# Altium integrated library Cypress PLD Simple.IntLib: 183 symbols (part 2 of 5)
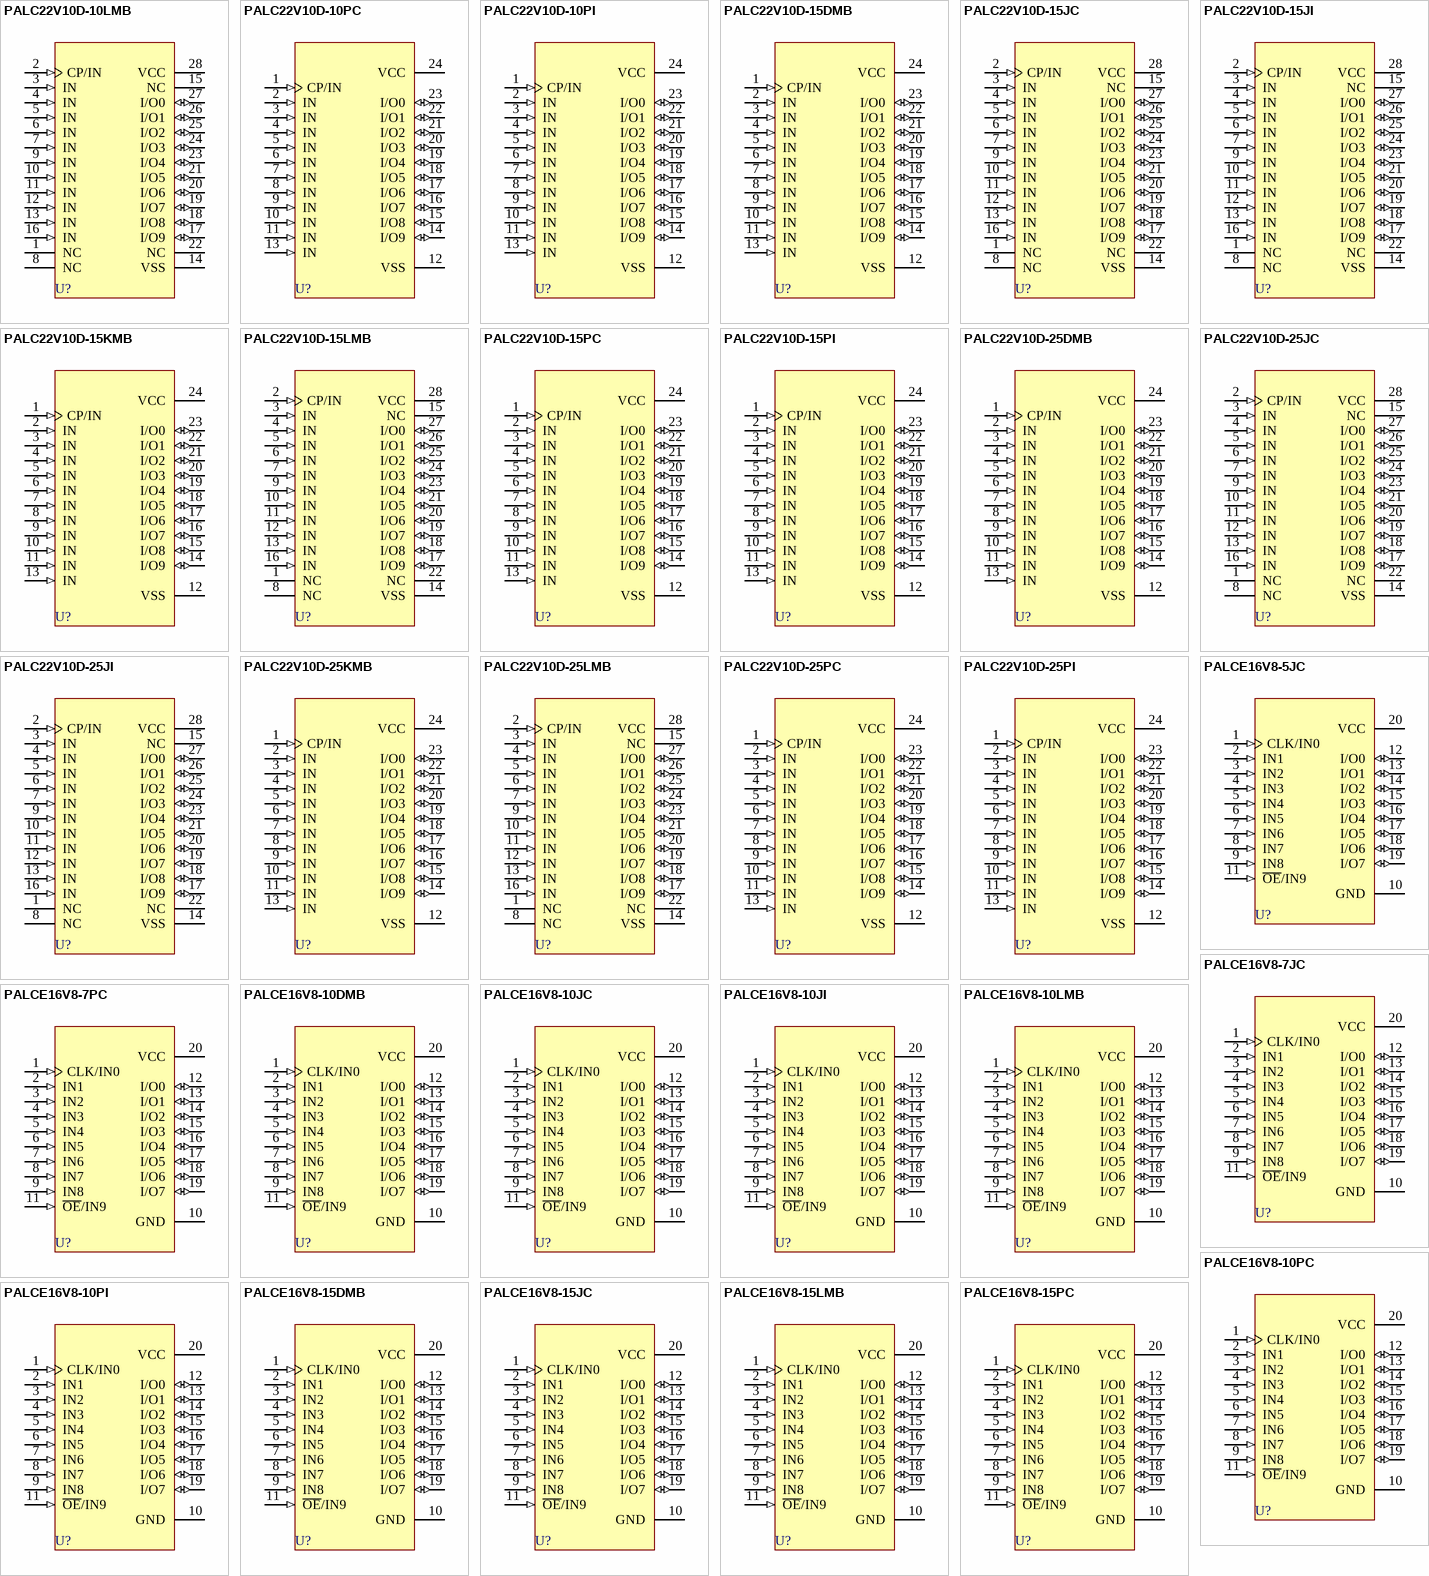
[diagram p8: symbols PALC22V10D-10LMB to PALCE16V8-15PC]

## PALC22V10D-10LMB
designator U?
Flash Erasable, Reprogrammable CMOS PAL Device; Published: 11-Dec-2002; DatasheetVersion: Oct-1995; PackageVersion: Apr-2001; PackageReference: L64; Publisher: Altium Limited; PackageDescription: Leadless Chip Carrier; 28 Terminals; Body 11.4 x 11.4 mm; ComponentLink1Description: Manufacturer Link; ComponentLink1URL: http://www.cypress.com/
footprint L64 (Leadless Chip Carrier; 28 Terminals; Body 11.4 x 11.4 mm)
pins: 1 NC, 2 CP/IN (in), 3 IN (in), 4 IN (in), 5 IN (in), 6 IN (in), 7 IN (in), 8 NC, 9 IN (in), 10 IN (in), 11 IN (in), 12 IN (in), 13 IN (in), 14 VSS (power), 15 NC, 16 IN (in), 17 I/O9 (io), 18 I/O8 (io), 19 I/O7 (io), 20 I/O6 (io), 21 I/O5 (io), 22 NC, 23 I/O4 (io), 24 I/O3 (io), 25 I/O2 (io), 26 I/O1 (io), 27 I/O0 (io), 28 VCC (power)

## PALC22V10D-10PC
designator U?
Flash Erasable, Reprogrammable CMOS PAL Device; Published: 11-Dec-2002; LatestRevisionDate: 06-Oct-2005; LatestRevisionNote: Increased PCB silkscreen length.; DatasheetVersion: Oct-1995; PackageVersion: Mar-2005; PackageReference: P13; Publisher: Altium Limited; PackageDescription: DIP, Molded; 24 Leads; Row Spacing 7.62 mm; Pitch 2.54 mm; ComponentLink1Description: Manufacturer Link; ComponentLink1URL: http://www.cypress.com/
footprint P13 (DIP, Molded; 24 Leads; Row Spacing 7.62 mm; Pitch 2.54 mm)
3D model P13 (DIP, Molded; 24 Leads; Row Spacing 7.62 mm; Pitch 2.54 mm)
pins: 1 CP/IN (in), 2 IN (in), 3 IN (in), 4 IN (in), 5 IN (in), 6 IN (in), 7 IN (in), 8 IN (in), 9 IN (in), 10 IN (in), 11 IN (in), 12 VSS (power), 13 IN (in), 14 I/O9 (io), 15 I/O8 (io), 16 I/O7 (io), 17 I/O6 (io), 18 I/O5 (io), 19 I/O4 (io), 20 I/O3 (io), 21 I/O2 (io), 22 I/O1 (io), 23 I/O0 (io), 24 VCC (power)

## PALC22V10D-10PI
designator U?
Flash Erasable, Reprogrammable CMOS PAL Device; Published: 11-Dec-2002; LatestRevisionDate: 06-Oct-2005; LatestRevisionNote: Increased PCB silkscreen length.; DatasheetVersion: Oct-1995; PackageVersion: Mar-2005; PackageReference: P13; Publisher: Altium Limited; PackageDescription: DIP, Molded; 24 Leads; Row Spacing 7.62 mm; Pitch 2.54 mm; ComponentLink1Description: Manufacturer Link; ComponentLink1URL: http://www.cypress.com/
footprint P13 (DIP, Molded; 24 Leads; Row Spacing 7.62 mm; Pitch 2.54 mm)
3D model P13 (DIP, Molded; 24 Leads; Row Spacing 7.62 mm; Pitch 2.54 mm)
pins: 1 CP/IN (in), 2 IN (in), 3 IN (in), 4 IN (in), 5 IN (in), 6 IN (in), 7 IN (in), 8 IN (in), 9 IN (in), 10 IN (in), 11 IN (in), 12 VSS (power), 13 IN (in), 14 I/O9 (io), 15 I/O8 (io), 16 I/O7 (io), 17 I/O6 (io), 18 I/O5 (io), 19 I/O4 (io), 20 I/O3 (io), 21 I/O2 (io), 22 I/O1 (io), 23 I/O0 (io), 24 VCC (power)

## PALC22V10D-15DMB
designator U?
Flash Erasable, Reprogrammable CMOS PAL Device; Published: 11-Dec-2002; LatestRevisionDate: 04-Mar-2005; LatestRevisionNote: Stylized 3D Model Added.; DatasheetVersion: Oct-1995; PackageVersion: Jul-2001; PackageReference: D14; Publisher: Altium Limited; PackageDescription: CerDIP; 24 Leads; Row Spacing 7.62 mm; Pitch 2.54 mm; Code_JEDEC: MS-001-AF; ComponentLink1Description: Manufacturer Link; ComponentLink1URL: http://www.cypress.com/
footprint D14 (CerDIP; 24 Leads; Row Spacing 7.62 mm; Pitch 2.54 mm)
3D model D14 (CerDIP; 24 Leads; Row Spacing 7.62 mm; Pitch 2.54 mm)
pins: 1 CP/IN (in), 2 IN (in), 3 IN (in), 4 IN (in), 5 IN (in), 6 IN (in), 7 IN (in), 8 IN (in), 9 IN (in), 10 IN (in), 11 IN (in), 12 VSS (power), 13 IN (in), 14 I/O9 (io), 15 I/O8 (io), 16 I/O7 (io), 17 I/O6 (io), 18 I/O5 (io), 19 I/O4 (io), 20 I/O3 (io), 21 I/O2 (io), 22 I/O1 (io), 23 I/O0 (io), 24 VCC (power)

## PALC22V10D-15JC
designator U?
Flash Erasable, Reprogrammable CMOS PAL Device; Published: 11-Dec-2002; LatestRevisionDate: 13-Apr-2006; LatestRevisionNote: IPC-7351 Footprint Added.; DatasheetVersion: Oct-1995; PackageVersion: Jul-2000; PackageReference: J64; Publisher: Altium Limited; PackageDescription: 28-Pin Plastic Leaded Chip Carrier 1.27 mm Pitch; Code_IPC: PLCC-28; ComponentLink1Description: Manufacturer Link; ComponentLink1URL: http://www.cypress.com/
footprint J64_N (Leaded Chip Carrier, 28-Leads, Body 11.5x11.5mm, Pitch 1.27mm, IPC Medium Density)
footprint J64_L (Leaded Chip Carrier, 28-Leads, Body 11.5x11.5mm, Pitch 1.27mm, IPC High Density)
footprint J64_M (Leaded Chip Carrier, 28-Leads, Body 11.5x11.5mm, Pitch 1.27mm, IPC Low Density)
3D model PALC22V10D-J64 (28-Pin Plastic Leaded Chip Carrier 1.27 mm Pitch)
pins: 1 NC, 2 CP/IN (in), 3 IN (in), 4 IN (in), 5 IN (in), 6 IN (in), 7 IN (in), 8 NC, 9 IN (in), 10 IN (in), 11 IN (in), 12 IN (in), 13 IN (in), 14 VSS (power), 15 NC, 16 IN (in), 17 I/O9 (io), 18 I/O8 (io), 19 I/O7 (io), 20 I/O6 (io), 21 I/O5 (io), 22 NC, 23 I/O4 (io), 24 I/O3 (io), 25 I/O2 (io), 26 I/O1 (io), 27 I/O0 (io), 28 VCC (power)

## PALC22V10D-15JI
designator U?
Flash Erasable, Reprogrammable CMOS PAL Device; Published: 11-Dec-2002; LatestRevisionDate: 13-Apr-2006; LatestRevisionNote: IPC-7351 Footprint Added.; DatasheetVersion: Oct-1995; PackageVersion: Jul-2000; PackageReference: J64; Publisher: Altium Limited; PackageDescription: 28-Pin Plastic Leaded Chip Carrier 1.27 mm Pitch; Code_IPC: PLCC-28; ComponentLink1Description: Manufacturer Link; ComponentLink1URL: http://www.cypress.com/
footprint J64_N (Leaded Chip Carrier, 28-Leads, Body 11.5x11.5mm, Pitch 1.27mm, IPC Medium Density)
footprint J64_L (Leaded Chip Carrier, 28-Leads, Body 11.5x11.5mm, Pitch 1.27mm, IPC High Density)
footprint J64_M (Leaded Chip Carrier, 28-Leads, Body 11.5x11.5mm, Pitch 1.27mm, IPC Low Density)
3D model PALC22V10D-J64 (28-Pin Plastic Leaded Chip Carrier 1.27 mm Pitch)
pins: 1 NC, 2 CP/IN (in), 3 IN (in), 4 IN (in), 5 IN (in), 6 IN (in), 7 IN (in), 8 NC, 9 IN (in), 10 IN (in), 11 IN (in), 12 IN (in), 13 IN (in), 14 VSS (power), 15 NC, 16 IN (in), 17 I/O9 (io), 18 I/O8 (io), 19 I/O7 (io), 20 I/O6 (io), 21 I/O5 (io), 22 NC, 23 I/O4 (io), 24 I/O3 (io), 25 I/O2 (io), 26 I/O1 (io), 27 I/O0 (io), 28 VCC (power)

## PALC22V10D-15KMB
designator U?
Flash Erasable, Reprogrammable CMOS PAL Device; Published: 11-Dec-2002; LatestRevisionDate: 04-Mar-2005; LatestRevisionNote: Stylized 3D Model Added.; DatasheetVersion: Oct-1995; PackageVersion: Jul-2001; PackageReference: K73; Publisher: Altium Limited; PackageDescription: DFP; 24 Leads; Body 15.7 x 10.2 mm (LxW max); Pitch 1.27 mm; Code_IPC: MO-019(24); ComponentLink1Description: Manufacturer Link; ComponentLink1URL: http://www.cypress.com/
footprint K73 (DFP; 24 Leads; Body 15.7 x 10.2 mm (LxW max); Pitch 1.27 mm)
3D model K73 (DFP; 24 Leads; Body 15.7 x 10.2 mm (LxW max); Pitch 1.27 mm)
pins: 1 CP/IN (in), 2 IN (in), 3 IN (in), 4 IN (in), 5 IN (in), 6 IN (in), 7 IN (in), 8 IN (in), 9 IN (in), 10 IN (in), 11 IN (in), 12 VSS (power), 13 IN (in), 14 I/O9 (io), 15 I/O8 (io), 16 I/O7 (io), 17 I/O6 (io), 18 I/O5 (io), 19 I/O4 (io), 20 I/O3 (io), 21 I/O2 (io), 22 I/O1 (io), 23 I/O0 (io), 24 VCC (power)

## PALC22V10D-15LMB
designator U?
Flash Erasable, Reprogrammable CMOS PAL Device; Published: 11-Dec-2002; DatasheetVersion: Oct-1995; PackageVersion: Apr-2001; PackageReference: L64; Publisher: Altium Limited; PackageDescription: Leadless Chip Carrier; 28 Terminals; Body 11.4 x 11.4 mm; ComponentLink1Description: Manufacturer Link; ComponentLink1URL: http://www.cypress.com/
footprint L64 (Leadless Chip Carrier; 28 Terminals; Body 11.4 x 11.4 mm)
pins: 1 NC, 2 CP/IN (in), 3 IN (in), 4 IN (in), 5 IN (in), 6 IN (in), 7 IN (in), 8 NC, 9 IN (in), 10 IN (in), 11 IN (in), 12 IN (in), 13 IN (in), 14 VSS (power), 15 NC, 16 IN (in), 17 I/O9 (io), 18 I/O8 (io), 19 I/O7 (io), 20 I/O6 (io), 21 I/O5 (io), 22 NC, 23 I/O4 (io), 24 I/O3 (io), 25 I/O2 (io), 26 I/O1 (io), 27 I/O0 (io), 28 VCC (power)

## PALC22V10D-15PC
designator U?
Flash Erasable, Reprogrammable CMOS PAL Device; Published: 11-Dec-2002; LatestRevisionDate: 06-Oct-2005; LatestRevisionNote: Increased PCB silkscreen length.; DatasheetVersion: Oct-1995; PackageVersion: Mar-2005; PackageReference: P13; Publisher: Altium Limited; PackageDescription: DIP, Molded; 24 Leads; Row Spacing 7.62 mm; Pitch 2.54 mm; ComponentLink1Description: Manufacturer Link; ComponentLink1URL: http://www.cypress.com/
footprint P13 (DIP, Molded; 24 Leads; Row Spacing 7.62 mm; Pitch 2.54 mm)
3D model P13 (DIP, Molded; 24 Leads; Row Spacing 7.62 mm; Pitch 2.54 mm)
pins: 1 CP/IN (in), 2 IN (in), 3 IN (in), 4 IN (in), 5 IN (in), 6 IN (in), 7 IN (in), 8 IN (in), 9 IN (in), 10 IN (in), 11 IN (in), 12 VSS (power), 13 IN (in), 14 I/O9 (io), 15 I/O8 (io), 16 I/O7 (io), 17 I/O6 (io), 18 I/O5 (io), 19 I/O4 (io), 20 I/O3 (io), 21 I/O2 (io), 22 I/O1 (io), 23 I/O0 (io), 24 VCC (power)

## PALC22V10D-15PI
designator U?
Flash Erasable, Reprogrammable CMOS PAL Device; Published: 11-Dec-2002; LatestRevisionDate: 06-Oct-2005; LatestRevisionNote: Increased PCB silkscreen length.; DatasheetVersion: Oct-1995; PackageVersion: Mar-2005; PackageReference: P13; Publisher: Altium Limited; PackageDescription: DIP, Molded; 24 Leads; Row Spacing 7.62 mm; Pitch 2.54 mm; ComponentLink1Description: Manufacturer Link; ComponentLink1URL: http://www.cypress.com/
footprint P13 (DIP, Molded; 24 Leads; Row Spacing 7.62 mm; Pitch 2.54 mm)
3D model P13 (DIP, Molded; 24 Leads; Row Spacing 7.62 mm; Pitch 2.54 mm)
pins: 1 CP/IN (in), 2 IN (in), 3 IN (in), 4 IN (in), 5 IN (in), 6 IN (in), 7 IN (in), 8 IN (in), 9 IN (in), 10 IN (in), 11 IN (in), 12 VSS (power), 13 IN (in), 14 I/O9 (io), 15 I/O8 (io), 16 I/O7 (io), 17 I/O6 (io), 18 I/O5 (io), 19 I/O4 (io), 20 I/O3 (io), 21 I/O2 (io), 22 I/O1 (io), 23 I/O0 (io), 24 VCC (power)

## PALC22V10D-25DMB
designator U?
Flash Erasable, Reprogrammable CMOS PAL Device; Published: 11-Dec-2002; LatestRevisionDate: 04-Mar-2005; LatestRevisionNote: Stylized 3D Model Added.; DatasheetVersion: Oct-1995; PackageVersion: Jul-2001; PackageReference: D14; Publisher: Altium Limited; PackageDescription: CerDIP; 24 Leads; Row Spacing 7.62 mm; Pitch 2.54 mm; Code_JEDEC: MS-001-AF; ComponentLink1Description: Manufacturer Link; ComponentLink1URL: http://www.cypress.com/
footprint D14 (CerDIP; 24 Leads; Row Spacing 7.62 mm; Pitch 2.54 mm)
3D model D14 (CerDIP; 24 Leads; Row Spacing 7.62 mm; Pitch 2.54 mm)
pins: 1 CP/IN (in), 2 IN (in), 3 IN (in), 4 IN (in), 5 IN (in), 6 IN (in), 7 IN (in), 8 IN (in), 9 IN (in), 10 IN (in), 11 IN (in), 12 VSS (power), 13 IN (in), 14 I/O9 (io), 15 I/O8 (io), 16 I/O7 (io), 17 I/O6 (io), 18 I/O5 (io), 19 I/O4 (io), 20 I/O3 (io), 21 I/O2 (io), 22 I/O1 (io), 23 I/O0 (io), 24 VCC (power)

## PALC22V10D-25JC
designator U?
Flash Erasable, Reprogrammable CMOS PAL Device; Published: 11-Dec-2002; LatestRevisionDate: 13-Apr-2006; LatestRevisionNote: IPC-7351 Footprint Added.; DatasheetVersion: Oct-1995; PackageVersion: Jul-2000; PackageReference: J64; Publisher: Altium Limited; PackageDescription: 28-Pin Plastic Leaded Chip Carrier 1.27 mm Pitch; Code_IPC: PLCC-28; ComponentLink1Description: Manufacturer Link; ComponentLink1URL: http://www.cypress.com/
footprint J64_N (Leaded Chip Carrier, 28-Leads, Body 11.5x11.5mm, Pitch 1.27mm, IPC Medium Density)
footprint J64_L (Leaded Chip Carrier, 28-Leads, Body 11.5x11.5mm, Pitch 1.27mm, IPC High Density)
footprint J64_M (Leaded Chip Carrier, 28-Leads, Body 11.5x11.5mm, Pitch 1.27mm, IPC Low Density)
3D model PALC22V10D-J64 (28-Pin Plastic Leaded Chip Carrier 1.27 mm Pitch)
pins: 1 NC, 2 CP/IN (in), 3 IN (in), 4 IN (in), 5 IN (in), 6 IN (in), 7 IN (in), 8 NC, 9 IN (in), 10 IN (in), 11 IN (in), 12 IN (in), 13 IN (in), 14 VSS (power), 15 NC, 16 IN (in), 17 I/O9 (io), 18 I/O8 (io), 19 I/O7 (io), 20 I/O6 (io), 21 I/O5 (io), 22 NC, 23 I/O4 (io), 24 I/O3 (io), 25 I/O2 (io), 26 I/O1 (io), 27 I/O0 (io), 28 VCC (power)

## PALC22V10D-25JI
designator U?
Flash Erasable, Reprogrammable CMOS PAL Device; Published: 11-Dec-2002; LatestRevisionDate: 13-Apr-2006; LatestRevisionNote: IPC-7351 Footprint Added.; DatasheetVersion: Oct-1995; PackageVersion: Jul-2000; PackageReference: J64; Publisher: Altium Limited; PackageDescription: 28-Pin Plastic Leaded Chip Carrier 1.27 mm Pitch; Code_IPC: PLCC-28; ComponentLink1Description: Manufacturer Link; ComponentLink1URL: http://www.cypress.com/
footprint J64_N (Leaded Chip Carrier, 28-Leads, Body 11.5x11.5mm, Pitch 1.27mm, IPC Medium Density)
footprint J64_L (Leaded Chip Carrier, 28-Leads, Body 11.5x11.5mm, Pitch 1.27mm, IPC High Density)
footprint J64_M (Leaded Chip Carrier, 28-Leads, Body 11.5x11.5mm, Pitch 1.27mm, IPC Low Density)
3D model PALC22V10D-J64 (28-Pin Plastic Leaded Chip Carrier 1.27 mm Pitch)
pins: 1 NC, 2 CP/IN (in), 3 IN (in), 4 IN (in), 5 IN (in), 6 IN (in), 7 IN (in), 8 NC, 9 IN (in), 10 IN (in), 11 IN (in), 12 IN (in), 13 IN (in), 14 VSS (power), 15 NC, 16 IN (in), 17 I/O9 (io), 18 I/O8 (io), 19 I/O7 (io), 20 I/O6 (io), 21 I/O5 (io), 22 NC, 23 I/O4 (io), 24 I/O3 (io), 25 I/O2 (io), 26 I/O1 (io), 27 I/O0 (io), 28 VCC (power)

## PALC22V10D-25KMB
designator U?
Flash Erasable, Reprogrammable CMOS PAL Device; Published: 11-Dec-2002; LatestRevisionDate: 04-Mar-2005; LatestRevisionNote: Stylized 3D Model Added.; DatasheetVersion: Oct-1995; PackageVersion: Jul-2001; PackageReference: K73; Publisher: Altium Limited; PackageDescription: DFP; 24 Leads; Body 15.7 x 10.2 mm (LxW max); Pitch 1.27 mm; Code_IPC: MO-019(24); ComponentLink1Description: Manufacturer Link; ComponentLink1URL: http://www.cypress.com/
footprint K73 (DFP; 24 Leads; Body 15.7 x 10.2 mm (LxW max); Pitch 1.27 mm)
3D model K73 (DFP; 24 Leads; Body 15.7 x 10.2 mm (LxW max); Pitch 1.27 mm)
pins: 1 CP/IN (in), 2 IN (in), 3 IN (in), 4 IN (in), 5 IN (in), 6 IN (in), 7 IN (in), 8 IN (in), 9 IN (in), 10 IN (in), 11 IN (in), 12 VSS (power), 13 IN (in), 14 I/O9 (io), 15 I/O8 (io), 16 I/O7 (io), 17 I/O6 (io), 18 I/O5 (io), 19 I/O4 (io), 20 I/O3 (io), 21 I/O2 (io), 22 I/O1 (io), 23 I/O0 (io), 24 VCC (power)

## PALC22V10D-25LMB
designator U?
Flash Erasable, Reprogrammable CMOS PAL Device; Published: 11-Dec-2002; DatasheetVersion: Oct-1995; PackageVersion: Apr-2001; PackageReference: L64; Publisher: Altium Limited; PackageDescription: Leadless Chip Carrier; 28 Terminals; Body 11.4 x 11.4 mm; ComponentLink1Description: Manufacturer Link; ComponentLink1URL: http://www.cypress.com/
footprint L64 (Leadless Chip Carrier; 28 Terminals; Body 11.4 x 11.4 mm)
pins: 1 NC, 2 CP/IN (in), 3 IN (in), 4 IN (in), 5 IN (in), 6 IN (in), 7 IN (in), 8 NC, 9 IN (in), 10 IN (in), 11 IN (in), 12 IN (in), 13 IN (in), 14 VSS (power), 15 NC, 16 IN (in), 17 I/O9 (io), 18 I/O8 (io), 19 I/O7 (io), 20 I/O6 (io), 21 I/O5 (io), 22 NC, 23 I/O4 (io), 24 I/O3 (io), 25 I/O2 (io), 26 I/O1 (io), 27 I/O0 (io), 28 VCC (power)

## PALC22V10D-25PC
designator U?
Flash Erasable, Reprogrammable CMOS PAL Device; Published: 11-Dec-2002; LatestRevisionDate: 06-Oct-2005; LatestRevisionNote: Increased PCB silkscreen length.; DatasheetVersion: Oct-1995; PackageVersion: Mar-2005; PackageReference: P13; Publisher: Altium Limited; PackageDescription: DIP, Molded; 24 Leads; Row Spacing 7.62 mm; Pitch 2.54 mm; ComponentLink1Description: Manufacturer Link; ComponentLink1URL: http://www.cypress.com/
footprint P13 (DIP, Molded; 24 Leads; Row Spacing 7.62 mm; Pitch 2.54 mm)
3D model P13 (DIP, Molded; 24 Leads; Row Spacing 7.62 mm; Pitch 2.54 mm)
pins: 1 CP/IN (in), 2 IN (in), 3 IN (in), 4 IN (in), 5 IN (in), 6 IN (in), 7 IN (in), 8 IN (in), 9 IN (in), 10 IN (in), 11 IN (in), 12 VSS (power), 13 IN (in), 14 I/O9 (io), 15 I/O8 (io), 16 I/O7 (io), 17 I/O6 (io), 18 I/O5 (io), 19 I/O4 (io), 20 I/O3 (io), 21 I/O2 (io), 22 I/O1 (io), 23 I/O0 (io), 24 VCC (power)

## PALC22V10D-25PI
designator U?
Flash Erasable, Reprogrammable CMOS PAL Device; Published: 11-Dec-2002; LatestRevisionDate: 06-Oct-2005; LatestRevisionNote: Increased PCB silkscreen length.; DatasheetVersion: Oct-1995; PackageVersion: Mar-2005; PackageReference: P13; Publisher: Altium Limited; PackageDescription: DIP, Molded; 24 Leads; Row Spacing 7.62 mm; Pitch 2.54 mm; ComponentLink1Description: Manufacturer Link; ComponentLink1URL: http://www.cypress.com/
footprint P13 (DIP, Molded; 24 Leads; Row Spacing 7.62 mm; Pitch 2.54 mm)
3D model P13 (DIP, Molded; 24 Leads; Row Spacing 7.62 mm; Pitch 2.54 mm)
pins: 1 CP/IN (in), 2 IN (in), 3 IN (in), 4 IN (in), 5 IN (in), 6 IN (in), 7 IN (in), 8 IN (in), 9 IN (in), 10 IN (in), 11 IN (in), 12 VSS (power), 13 IN (in), 14 I/O9 (io), 15 I/O8 (io), 16 I/O7 (io), 17 I/O6 (io), 18 I/O5 (io), 19 I/O4 (io), 20 I/O3 (io), 21 I/O2 (io), 22 I/O1 (io), 23 I/O0 (io), 24 VCC (power)

## PALCE16V8-5JC
designator U?
Flash Erasable, Reprogrammable CMOS PAL Device; ComponentAvailability: Not for New Design; Published: 11-Dec-2002; LatestRevisionDate: 13-Apr-2006; LatestRevisionNote: IPC-7351 Footprint Added.; DatasheetVersion: 3-Sep-1998; PackageVersion: Aug-2000; PackageReference: J61; Publisher: Altium Limited; PackageDescription: 20-Pin Plastic Leaded Chip Carrier 1.27 mm Pitch; Code_IPC: PLCC-20; ComponentLink1Description: Manufacturer Link; ComponentLink1URL: http://www.cypress.com/; ComponentLink2Description: Datasheet; ComponentLink2URL: http://www.cypress.com/portal/server.pt/gateway/PTARGS_0_2_1524_209_259_43/http%3B/sjapp20.mis.cypress.com%3B7001/publishedcontent/publish/design_resources/datasheets/contents/palce16v8_5.pdf
footprint J61_N (Leaded Chip Carrier, 20-Leads, Body 9x9mm, Pitch 1.27mm, IPC Medium Density)
footprint J61_L (Leaded Chip Carrier, 20-Leads, Body 9x9mm, Pitch 1.27mm, IPC High Density)
footprint J61_M (Leaded Chip Carrier, 20-Leads, Body 9x9mm, Pitch 1.27mm, IPC Low Density)
3D model PALCE16V8-J61 (20-Pin Plastic Leaded Chip Carrier 1.27 mm Pitch)
pins: 1 CLK/IN0 (in), 2 IN1 (in), 3 IN2 (in), 4 IN3 (in), 5 IN4 (in), 6 IN5 (in), 7 IN6 (in), 8 IN7 (in), 9 IN8 (in), 10 GND (power), 11 ~{OE}/IN9 (in), 12 I/O0 (io), 13 I/O1 (io), 14 I/O2 (io), 15 I/O3 (io), 16 I/O4 (io), 17 I/O5 (io), 18 I/O6 (io), 19 I/O7 (io), 20 VCC (power)

## PALCE16V8-7JC
designator U?
Flash Erasable, Reprogrammable CMOS PAL Device; ComponentAvailability: Not for New Design; Published: 11-Dec-2002; LatestRevisionDate: 13-Apr-2006; LatestRevisionNote: IPC-7351 Footprint Added.; DatasheetVersion: 3-Sep-1998; PackageVersion: Aug-2000; PackageReference: J61; Publisher: Altium Limited; PackageDescription: 20-Pin Plastic Leaded Chip Carrier 1.27 mm Pitch; Code_IPC: PLCC-20; ComponentLink1Description: Manufacturer Link; ComponentLink1URL: http://www.cypress.com/; ComponentLink2Description: Datasheet; ComponentLink2URL: http://www.cypress.com/portal/server.pt/gateway/PTARGS_0_2_1524_209_259_43/http%3B/sjapp20.mis.cypress.com%3B7001/publishedcontent/publish/design_resources/datasheets/contents/palce16v8_5.pdf
footprint J61_N (Leaded Chip Carrier, 20-Leads, Body 9x9mm, Pitch 1.27mm, IPC Medium Density)
footprint J61_L (Leaded Chip Carrier, 20-Leads, Body 9x9mm, Pitch 1.27mm, IPC High Density)
footprint J61_M (Leaded Chip Carrier, 20-Leads, Body 9x9mm, Pitch 1.27mm, IPC Low Density)
3D model PALCE16V8-J61 (20-Pin Plastic Leaded Chip Carrier 1.27 mm Pitch)
pins: 1 CLK/IN0 (in), 2 IN1 (in), 3 IN2 (in), 4 IN3 (in), 5 IN4 (in), 6 IN5 (in), 7 IN6 (in), 8 IN7 (in), 9 IN8 (in), 10 GND (power), 11 ~{OE}/IN9 (in), 12 I/O0 (io), 13 I/O1 (io), 14 I/O2 (io), 15 I/O3 (io), 16 I/O4 (io), 17 I/O5 (io), 18 I/O6 (io), 19 I/O7 (io), 20 VCC (power)

## PALCE16V8-7PC
designator U?
Flash Erasable, Reprogrammable CMOS PAL Device; ComponentAvailability: Not for New Design; Published: 11-Dec-2002; LatestRevisionDate: 04-Mar-2005; LatestRevisionNote: Stylized 3D Model Added.; DatasheetVersion: 3-Sep-1998; PackageVersion: Oct-2004; PackageReference: P5; Publisher: Altium Limited; PackageDescription: DIP, Molded; 20 Leads; Row Spacing 7.62 mm; Pitch 2.54 mm; Code_JEDEC: MS-001-AD; ComponentLink1Description: Manufacturer Link; ComponentLink1URL: http://www.cypress.com/; ComponentLink2Description: Datasheet; ComponentLink2URL: http://www.cypress.com/portal/server.pt/gateway/PTARGS_0_2_1524_209_259_43/http%3B/sjapp20.mis.cypress.com%3B7001/publishedcontent/publish/design_resources/datasheets/contents/palce16v8_5.pdf
footprint P5 (DIP, Molded; 20 Leads; Row Spacing 7.62 mm; Pitch 2.54 mm)
3D model P5 (DIP, Molded; 20 Leads; Row Spacing 7.62 mm; Pitch 2.54 mm)
pins: 1 CLK/IN0 (in), 2 IN1 (in), 3 IN2 (in), 4 IN3 (in), 5 IN4 (in), 6 IN5 (in), 7 IN6 (in), 8 IN7 (in), 9 IN8 (in), 10 GND (power), 11 ~{OE}/IN9 (in), 12 I/O0 (io), 13 I/O1 (io), 14 I/O2 (io), 15 I/O3 (io), 16 I/O4 (io), 17 I/O5 (io), 18 I/O6 (io), 19 I/O7 (io), 20 VCC (power)

## PALCE16V8-10DMB
designator U?
Flash Erasable, Reprogrammable CMOS PAL Device; ComponentAvailability: Not for New Design; Published: 11-Dec-2002; LatestRevisionDate: 04-Mar-2005; LatestRevisionNote: Stylized 3D Model Added.; DatasheetVersion: 3-Sep-1998; PackageVersion: Jul-2001; PackageReference: D6; Publisher: Altium Limited; PackageDescription: CerDIP; 20 Leads; Row Spacing 7.62 mm; Pitch 2.54 mm; ComponentLink1Description: Manufacturer Link; ComponentLink1URL: http://www.cypress.com/; ComponentLink2Description: Datasheet; ComponentLink2URL: http://www.cypress.com/portal/server.pt/gateway/PTARGS_0_2_1524_209_259_43/http%3B/sjapp20.mis.cypress.com%3B7001/publishedcontent/publish/design_resources/datasheets/contents/palce16v8_5.pdf
footprint D6 (CerDIP; 20 Leads; Row Spacing 7.62 mm; Pitch 2.54 mm)
3D model D6 (CerDIP; 20 Leads; Row Spacing 7.62 mm; Pitch 2.54 mm)
pins: 1 CLK/IN0 (in), 2 IN1 (in), 3 IN2 (in), 4 IN3 (in), 5 IN4 (in), 6 IN5 (in), 7 IN6 (in), 8 IN7 (in), 9 IN8 (in), 10 GND (power), 11 ~{OE}/IN9 (in), 12 I/O0 (io), 13 I/O1 (io), 14 I/O2 (io), 15 I/O3 (io), 16 I/O4 (io), 17 I/O5 (io), 18 I/O6 (io), 19 I/O7 (io), 20 VCC (power)

## PALCE16V8-10JC
designator U?
Flash Erasable, Reprogrammable CMOS PAL Device; ComponentAvailability: Not for New Design; Published: 11-Dec-2002; LatestRevisionDate: 13-Apr-2006; LatestRevisionNote: IPC-7351 Footprint Added.; DatasheetVersion: 3-Sep-1998; PackageVersion: Aug-2000; PackageReference: J61; Publisher: Altium Limited; PackageDescription: 20-Pin Plastic Leaded Chip Carrier 1.27 mm Pitch; Code_IPC: PLCC-20; ComponentLink1Description: Manufacturer Link; ComponentLink1URL: http://www.cypress.com/; ComponentLink2Description: Datasheet; ComponentLink2URL: http://www.cypress.com/portal/server.pt/gateway/PTARGS_0_2_1524_209_259_43/http%3B/sjapp20.mis.cypress.com%3B7001/publishedcontent/publish/design_resources/datasheets/contents/palce16v8_5.pdf
footprint J61_N (Leaded Chip Carrier, 20-Leads, Body 9x9mm, Pitch 1.27mm, IPC Medium Density)
footprint J61_L (Leaded Chip Carrier, 20-Leads, Body 9x9mm, Pitch 1.27mm, IPC High Density)
footprint J61_M (Leaded Chip Carrier, 20-Leads, Body 9x9mm, Pitch 1.27mm, IPC Low Density)
3D model PALCE16V8-J61 (20-Pin Plastic Leaded Chip Carrier 1.27 mm Pitch)
pins: 1 CLK/IN0 (in), 2 IN1 (in), 3 IN2 (in), 4 IN3 (in), 5 IN4 (in), 6 IN5 (in), 7 IN6 (in), 8 IN7 (in), 9 IN8 (in), 10 GND (power), 11 ~{OE}/IN9 (in), 12 I/O0 (io), 13 I/O1 (io), 14 I/O2 (io), 15 I/O3 (io), 16 I/O4 (io), 17 I/O5 (io), 18 I/O6 (io), 19 I/O7 (io), 20 VCC (power)

## PALCE16V8-10JI
designator U?
Flash Erasable, Reprogrammable CMOS PAL Device; ComponentAvailability: Not for New Design; Published: 11-Dec-2002; LatestRevisionDate: 13-Apr-2006; LatestRevisionNote: IPC-7351 Footprint Added.; DatasheetVersion: 3-Sep-1998; PackageVersion: Aug-2000; PackageReference: J61; Publisher: Altium Limited; PackageDescription: 20-Pin Plastic Leaded Chip Carrier 1.27 mm Pitch; Code_IPC: PLCC-20; ComponentLink1Description: Manufacturer Link; ComponentLink1URL: http://www.cypress.com/; ComponentLink2Description: Datasheet; ComponentLink2URL: http://www.cypress.com/portal/server.pt/gateway/PTARGS_0_2_1524_209_259_43/http%3B/sjapp20.mis.cypress.com%3B7001/publishedcontent/publish/design_resources/datasheets/contents/palce16v8_5.pdf
footprint J61_N (Leaded Chip Carrier, 20-Leads, Body 9x9mm, Pitch 1.27mm, IPC Medium Density)
footprint J61_L (Leaded Chip Carrier, 20-Leads, Body 9x9mm, Pitch 1.27mm, IPC High Density)
footprint J61_M (Leaded Chip Carrier, 20-Leads, Body 9x9mm, Pitch 1.27mm, IPC Low Density)
3D model PALCE16V8-J61 (20-Pin Plastic Leaded Chip Carrier 1.27 mm Pitch)
pins: 1 CLK/IN0 (in), 2 IN1 (in), 3 IN2 (in), 4 IN3 (in), 5 IN4 (in), 6 IN5 (in), 7 IN6 (in), 8 IN7 (in), 9 IN8 (in), 10 GND (power), 11 ~{OE}/IN9 (in), 12 I/O0 (io), 13 I/O1 (io), 14 I/O2 (io), 15 I/O3 (io), 16 I/O4 (io), 17 I/O5 (io), 18 I/O6 (io), 19 I/O7 (io), 20 VCC (power)

## PALCE16V8-10LMB
designator U?
Flash Erasable, Reprogrammable CMOS PAL Device; ComponentAvailability: Not for New Design; Published: 11-Dec-2002; DatasheetVersion: 3-Sep-1998; PackageVersion: Jul-2001; PackageReference: L61; Publisher: Altium Limited; PackageDescription: Leadless Chip Carrier; 20 Terminals; Body 8.9 x 8.9 mm; ComponentLink1Description: Manufacturer Link; ComponentLink1URL: http://www.cypress.com/; ComponentLink2Description: Datasheet; ComponentLink2URL: http://www.cypress.com/portal/server.pt/gateway/PTARGS_0_2_1524_209_259_43/http%3B/sjapp20.mis.cypress.com%3B7001/publishedcontent/publish/design_resources/datasheets/contents/palce16v8_5.pdf
footprint L61 (Leadless Chip Carrier; 20 Terminals; Body 8.9 x 8.9 mm)
pins: 1 CLK/IN0 (in), 2 IN1 (in), 3 IN2 (in), 4 IN3 (in), 5 IN4 (in), 6 IN5 (in), 7 IN6 (in), 8 IN7 (in), 9 IN8 (in), 10 GND (power), 11 ~{OE}/IN9 (in), 12 I/O0 (io), 13 I/O1 (io), 14 I/O2 (io), 15 I/O3 (io), 16 I/O4 (io), 17 I/O5 (io), 18 I/O6 (io), 19 I/O7 (io), 20 VCC (power)

## PALCE16V8-10PC
designator U?
Flash Erasable, Reprogrammable CMOS PAL Device; ComponentAvailability: Not for New Design; Published: 11-Dec-2002; LatestRevisionDate: 04-Mar-2005; LatestRevisionNote: Stylized 3D Model Added.; DatasheetVersion: 3-Sep-1998; PackageVersion: Oct-2004; PackageReference: P5; Publisher: Altium Limited; PackageDescription: DIP, Molded; 20 Leads; Row Spacing 7.62 mm; Pitch 2.54 mm; Code_JEDEC: MS-001-AD; ComponentLink1Description: Manufacturer Link; ComponentLink1URL: http://www.cypress.com/; ComponentLink2Description: Datasheet; ComponentLink2URL: http://www.cypress.com/portal/server.pt/gateway/PTARGS_0_2_1524_209_259_43/http%3B/sjapp20.mis.cypress.com%3B7001/publishedcontent/publish/design_resources/datasheets/contents/palce16v8_5.pdf
footprint P5 (DIP, Molded; 20 Leads; Row Spacing 7.62 mm; Pitch 2.54 mm)
3D model P5 (DIP, Molded; 20 Leads; Row Spacing 7.62 mm; Pitch 2.54 mm)
pins: 1 CLK/IN0 (in), 2 IN1 (in), 3 IN2 (in), 4 IN3 (in), 5 IN4 (in), 6 IN5 (in), 7 IN6 (in), 8 IN7 (in), 9 IN8 (in), 10 GND (power), 11 ~{OE}/IN9 (in), 12 I/O0 (io), 13 I/O1 (io), 14 I/O2 (io), 15 I/O3 (io), 16 I/O4 (io), 17 I/O5 (io), 18 I/O6 (io), 19 I/O7 (io), 20 VCC (power)

## PALCE16V8-10PI
designator U?
Flash Erasable, Reprogrammable CMOS PAL Device; ComponentAvailability: Not for New Design; Published: 11-Dec-2002; LatestRevisionDate: 04-Mar-2005; LatestRevisionNote: Stylized 3D Model Added.; DatasheetVersion: 3-Sep-1998; PackageVersion: Oct-2004; PackageReference: P5; Publisher: Altium Limited; PackageDescription: DIP, Molded; 20 Leads; Row Spacing 7.62 mm; Pitch 2.54 mm; Code_JEDEC: MS-001-AD; ComponentLink1Description: Manufacturer Link; ComponentLink1URL: http://www.cypress.com/; ComponentLink2Description: Datasheet; ComponentLink2URL: http://www.cypress.com/portal/server.pt/gateway/PTARGS_0_2_1524_209_259_43/http%3B/sjapp20.mis.cypress.com%3B7001/publishedcontent/publish/design_resources/datasheets/contents/palce16v8_5.pdf
footprint P5 (DIP, Molded; 20 Leads; Row Spacing 7.62 mm; Pitch 2.54 mm)
3D model P5 (DIP, Molded; 20 Leads; Row Spacing 7.62 mm; Pitch 2.54 mm)
pins: 1 CLK/IN0 (in), 2 IN1 (in), 3 IN2 (in), 4 IN3 (in), 5 IN4 (in), 6 IN5 (in), 7 IN6 (in), 8 IN7 (in), 9 IN8 (in), 10 GND (power), 11 ~{OE}/IN9 (in), 12 I/O0 (io), 13 I/O1 (io), 14 I/O2 (io), 15 I/O3 (io), 16 I/O4 (io), 17 I/O5 (io), 18 I/O6 (io), 19 I/O7 (io), 20 VCC (power)

## PALCE16V8-15DMB
designator U?
Flash Erasable, Reprogrammable CMOS PAL Device; ComponentAvailability: Not for New Design; Published: 11-Dec-2002; LatestRevisionDate: 04-Mar-2005; LatestRevisionNote: Stylized 3D Model Added.; DatasheetVersion: 3-Sep-1998; PackageVersion: Jul-2001; PackageReference: D6; Publisher: Altium Limited; PackageDescription: CerDIP; 20 Leads; Row Spacing 7.62 mm; Pitch 2.54 mm; ComponentLink1Description: Manufacturer Link; ComponentLink1URL: http://www.cypress.com/; ComponentLink2Description: Datasheet; ComponentLink2URL: http://www.cypress.com/portal/server.pt/gateway/PTARGS_0_2_1524_209_259_43/http%3B/sjapp20.mis.cypress.com%3B7001/publishedcontent/publish/design_resources/datasheets/contents/palce16v8_5.pdf
footprint D6 (CerDIP; 20 Leads; Row Spacing 7.62 mm; Pitch 2.54 mm)
3D model D6 (CerDIP; 20 Leads; Row Spacing 7.62 mm; Pitch 2.54 mm)
pins: 1 CLK/IN0 (in), 2 IN1 (in), 3 IN2 (in), 4 IN3 (in), 5 IN4 (in), 6 IN5 (in), 7 IN6 (in), 8 IN7 (in), 9 IN8 (in), 10 GND (power), 11 ~{OE}/IN9 (in), 12 I/O0 (io), 13 I/O1 (io), 14 I/O2 (io), 15 I/O3 (io), 16 I/O4 (io), 17 I/O5 (io), 18 I/O6 (io), 19 I/O7 (io), 20 VCC (power)

## PALCE16V8-15JC
designator U?
Flash Erasable, Reprogrammable CMOS PAL Device; ComponentAvailability: Not for New Design; Published: 11-Dec-2002; LatestRevisionDate: 13-Apr-2006; LatestRevisionNote: IPC-7351 Footprint Added.; DatasheetVersion: 3-Sep-1998; PackageVersion: Aug-2000; PackageReference: J61; Publisher: Altium Limited; PackageDescription: 20-Pin Plastic Leaded Chip Carrier 1.27 mm Pitch; Code_IPC: PLCC-20; ComponentLink1Description: Manufacturer Link; ComponentLink1URL: http://www.cypress.com/; ComponentLink2Description: Datasheet; ComponentLink2URL: http://www.cypress.com/portal/server.pt/gateway/PTARGS_0_2_1524_209_259_43/http%3B/sjapp20.mis.cypress.com%3B7001/publishedcontent/publish/design_resources/datasheets/contents/palce16v8_5.pdf
footprint J61_N (Leaded Chip Carrier, 20-Leads, Body 9x9mm, Pitch 1.27mm, IPC Medium Density)
footprint J61_L (Leaded Chip Carrier, 20-Leads, Body 9x9mm, Pitch 1.27mm, IPC High Density)
footprint J61_M (Leaded Chip Carrier, 20-Leads, Body 9x9mm, Pitch 1.27mm, IPC Low Density)
3D model PALCE16V8-J61 (20-Pin Plastic Leaded Chip Carrier 1.27 mm Pitch)
pins: 1 CLK/IN0 (in), 2 IN1 (in), 3 IN2 (in), 4 IN3 (in), 5 IN4 (in), 6 IN5 (in), 7 IN6 (in), 8 IN7 (in), 9 IN8 (in), 10 GND (power), 11 ~{OE}/IN9 (in), 12 I/O0 (io), 13 I/O1 (io), 14 I/O2 (io), 15 I/O3 (io), 16 I/O4 (io), 17 I/O5 (io), 18 I/O6 (io), 19 I/O7 (io), 20 VCC (power)

## PALCE16V8-15LMB
designator U?
Flash Erasable, Reprogrammable CMOS PAL Device; ComponentAvailability: Not for New Design; Published: 11-Dec-2002; DatasheetVersion: 3-Sep-1998; PackageVersion: Jul-2001; PackageReference: L61; Publisher: Altium Limited; PackageDescription: Leadless Chip Carrier; 20 Terminals; Body 8.9 x 8.9 mm; ComponentLink1Description: Manufacturer Link; ComponentLink1URL: http://www.cypress.com/; ComponentLink2Description: Datasheet; ComponentLink2URL: http://www.cypress.com/portal/server.pt/gateway/PTARGS_0_2_1524_209_259_43/http%3B/sjapp20.mis.cypress.com%3B7001/publishedcontent/publish/design_resources/datasheets/contents/palce16v8_5.pdf
footprint L61 (Leadless Chip Carrier; 20 Terminals; Body 8.9 x 8.9 mm)
pins: 1 CLK/IN0 (in), 2 IN1 (in), 3 IN2 (in), 4 IN3 (in), 5 IN4 (in), 6 IN5 (in), 7 IN6 (in), 8 IN7 (in), 9 IN8 (in), 10 GND (power), 11 ~{OE}/IN9 (in), 12 I/O0 (io), 13 I/O1 (io), 14 I/O2 (io), 15 I/O3 (io), 16 I/O4 (io), 17 I/O5 (io), 18 I/O6 (io), 19 I/O7 (io), 20 VCC (power)

## PALCE16V8-15PC
designator U?
Flash Erasable, Reprogrammable CMOS PAL Device; ComponentAvailability: Not for New Design; Published: 11-Dec-2002; LatestRevisionDate: 04-Mar-2005; LatestRevisionNote: Stylized 3D Model Added.; DatasheetVersion: 3-Sep-1998; PackageVersion: Oct-2004; PackageReference: P5; Publisher: Altium Limited; PackageDescription: DIP, Molded; 20 Leads; Row Spacing 7.62 mm; Pitch 2.54 mm; Code_JEDEC: MS-001-AD; ComponentLink1Description: Manufacturer Link; ComponentLink1URL: http://www.cypress.com/; ComponentLink2Description: Datasheet; ComponentLink2URL: http://www.cypress.com/portal/server.pt/gateway/PTARGS_0_2_1524_209_259_43/http%3B/sjapp20.mis.cypress.com%3B7001/publishedcontent/publish/design_resources/datasheets/contents/palce16v8_5.pdf
footprint P5 (DIP, Molded; 20 Leads; Row Spacing 7.62 mm; Pitch 2.54 mm)
3D model P5 (DIP, Molded; 20 Leads; Row Spacing 7.62 mm; Pitch 2.54 mm)
pins: 1 CLK/IN0 (in), 2 IN1 (in), 3 IN2 (in), 4 IN3 (in), 5 IN4 (in), 6 IN5 (in), 7 IN6 (in), 8 IN7 (in), 9 IN8 (in), 10 GND (power), 11 ~{OE}/IN9 (in), 12 I/O0 (io), 13 I/O1 (io), 14 I/O2 (io), 15 I/O3 (io), 16 I/O4 (io), 17 I/O5 (io), 18 I/O6 (io), 19 I/O7 (io), 20 VCC (power)

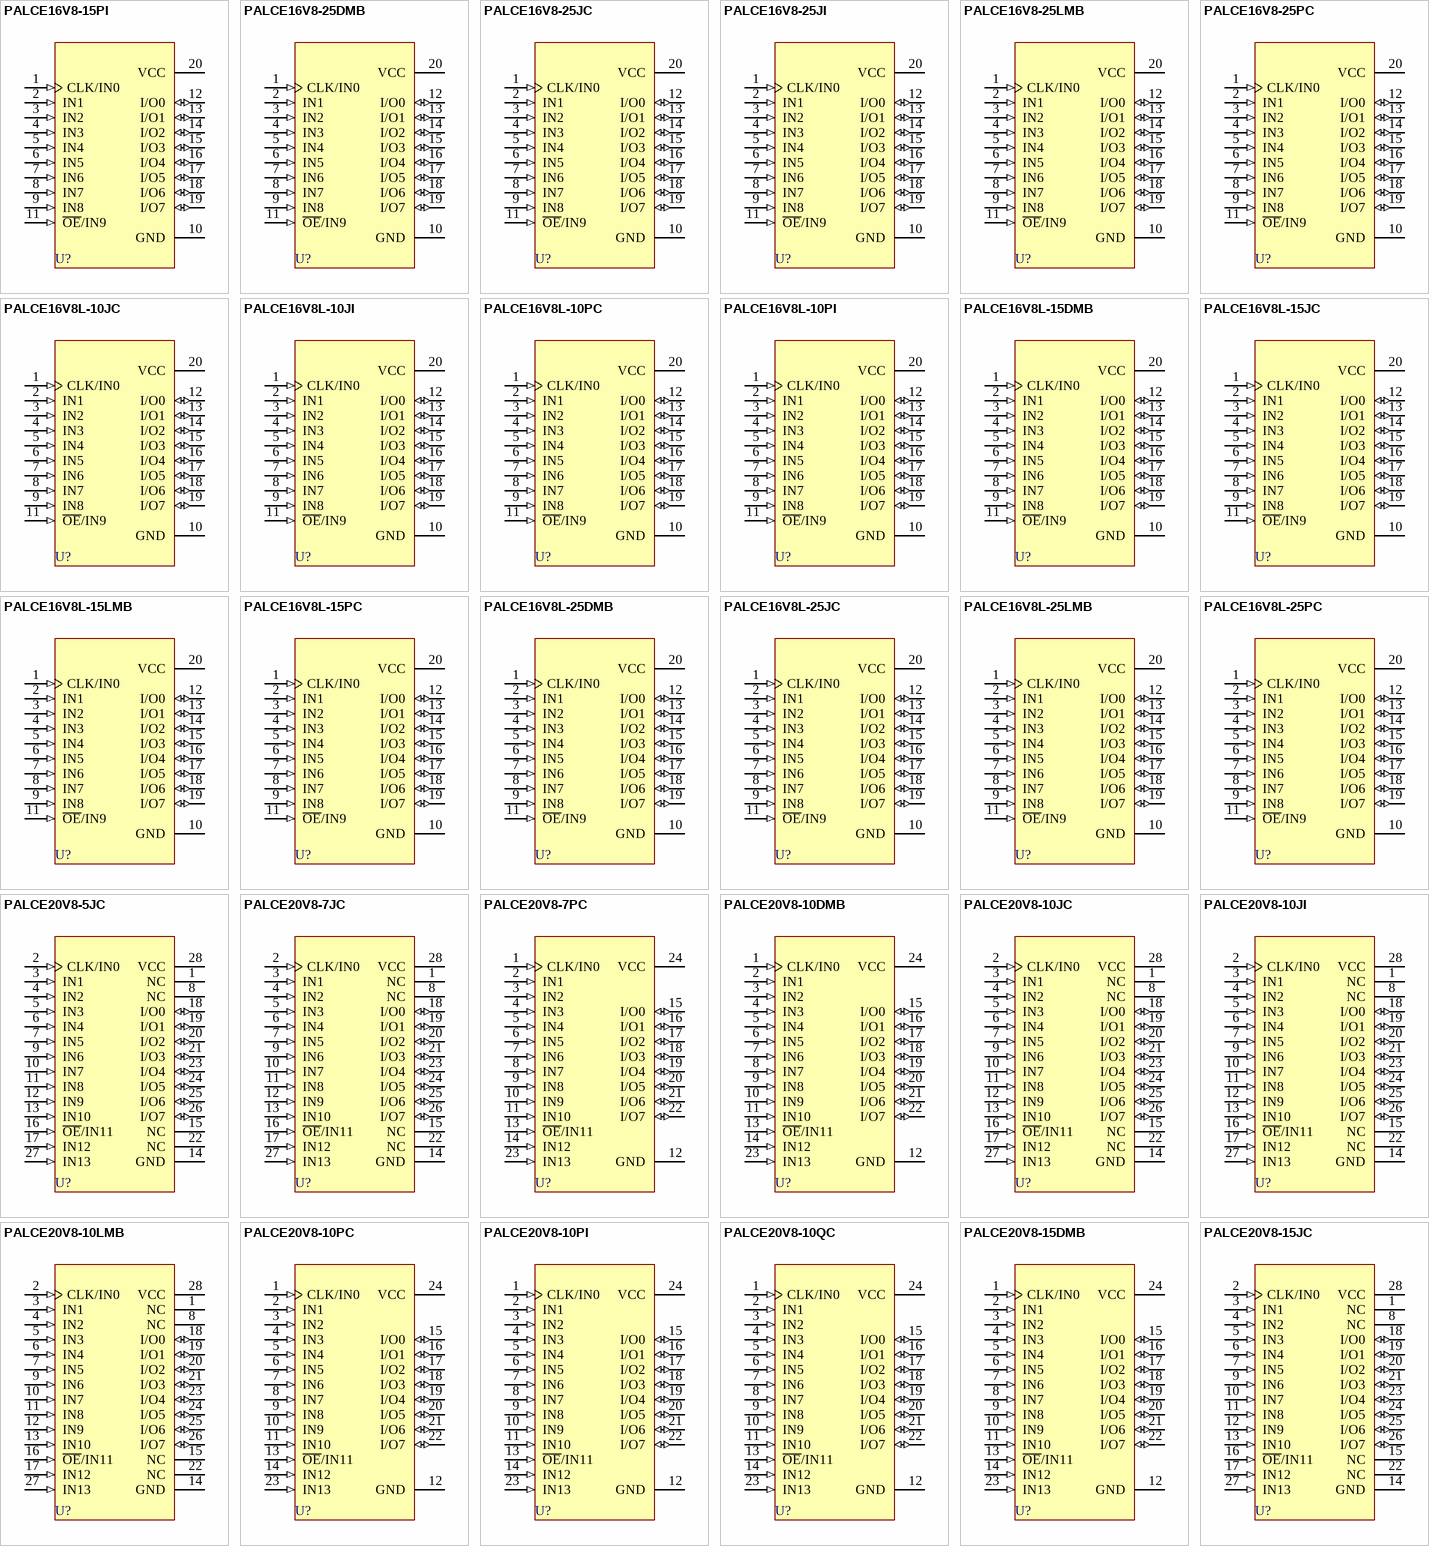
[diagram p3: symbols PALCE16V8-15PI to PALCE20V8-15JC]

## PALCE16V8-15PI
designator U?
Flash Erasable, Reprogrammable CMOS PAL Device; ComponentAvailability: Not for New Design; Published: 11-Dec-2002; LatestRevisionDate: 04-Mar-2005; LatestRevisionNote: Stylized 3D Model Added.; DatasheetVersion: 3-Sep-1998; PackageVersion: Oct-2004; PackageReference: P5; Publisher: Altium Limited; PackageDescription: DIP, Molded; 20 Leads; Row Spacing 7.62 mm; Pitch 2.54 mm; Code_JEDEC: MS-001-AD; ComponentLink1Description: Manufacturer Link; ComponentLink1URL: http://www.cypress.com/; ComponentLink2Description: Datasheet; ComponentLink2URL: http://www.cypress.com/portal/server.pt/gateway/PTARGS_0_2_1524_209_259_43/http%3B/sjapp20.mis.cypress.com%3B7001/publishedcontent/publish/design_resources/datasheets/contents/palce16v8_5.pdf
footprint P5 (DIP, Molded; 20 Leads; Row Spacing 7.62 mm; Pitch 2.54 mm)
3D model P5 (DIP, Molded; 20 Leads; Row Spacing 7.62 mm; Pitch 2.54 mm)
pins: 1 CLK/IN0 (in), 2 IN1 (in), 3 IN2 (in), 4 IN3 (in), 5 IN4 (in), 6 IN5 (in), 7 IN6 (in), 8 IN7 (in), 9 IN8 (in), 10 GND (power), 11 ~{OE}/IN9 (in), 12 I/O0 (io), 13 I/O1 (io), 14 I/O2 (io), 15 I/O3 (io), 16 I/O4 (io), 17 I/O5 (io), 18 I/O6 (io), 19 I/O7 (io), 20 VCC (power)

## PALCE16V8-25DMB
designator U?
Flash Erasable, Reprogrammable CMOS PAL Device; ComponentAvailability: Not for New Design; Published: 11-Dec-2002; LatestRevisionDate: 04-Mar-2005; LatestRevisionNote: Stylized 3D Model Added.; DatasheetVersion: 3-Sep-1998; PackageVersion: Jul-2001; PackageReference: D6; Publisher: Altium Limited; PackageDescription: CerDIP; 20 Leads; Row Spacing 7.62 mm; Pitch 2.54 mm; ComponentLink1Description: Manufacturer Link; ComponentLink1URL: http://www.cypress.com/; ComponentLink2Description: Datasheet; ComponentLink2URL: http://www.cypress.com/portal/server.pt/gateway/PTARGS_0_2_1524_209_259_43/http%3B/sjapp20.mis.cypress.com%3B7001/publishedcontent/publish/design_resources/datasheets/contents/palce16v8_5.pdf
footprint D6 (CerDIP; 20 Leads; Row Spacing 7.62 mm; Pitch 2.54 mm)
3D model D6 (CerDIP; 20 Leads; Row Spacing 7.62 mm; Pitch 2.54 mm)
pins: 1 CLK/IN0 (in), 2 IN1 (in), 3 IN2 (in), 4 IN3 (in), 5 IN4 (in), 6 IN5 (in), 7 IN6 (in), 8 IN7 (in), 9 IN8 (in), 10 GND (power), 11 ~{OE}/IN9 (in), 12 I/O0 (io), 13 I/O1 (io), 14 I/O2 (io), 15 I/O3 (io), 16 I/O4 (io), 17 I/O5 (io), 18 I/O6 (io), 19 I/O7 (io), 20 VCC (power)

## PALCE16V8-25JC
designator U?
Flash Erasable, Reprogrammable CMOS PAL Device; ComponentAvailability: Not for New Design; Published: 11-Dec-2002; LatestRevisionDate: 13-Apr-2006; LatestRevisionNote: IPC-7351 Footprint Added.; DatasheetVersion: 3-Sep-1998; PackageVersion: Aug-2000; PackageReference: J61; Publisher: Altium Limited; PackageDescription: 20-Pin Plastic Leaded Chip Carrier 1.27 mm Pitch; Code_IPC: PLCC-20; ComponentLink1Description: Manufacturer Link; ComponentLink1URL: http://www.cypress.com/; ComponentLink2Description: Datasheet; ComponentLink2URL: http://www.cypress.com/portal/server.pt/gateway/PTARGS_0_2_1524_209_259_43/http%3B/sjapp20.mis.cypress.com%3B7001/publishedcontent/publish/design_resources/datasheets/contents/palce16v8_5.pdf
footprint J61_N (Leaded Chip Carrier, 20-Leads, Body 9x9mm, Pitch 1.27mm, IPC Medium Density)
footprint J61_L (Leaded Chip Carrier, 20-Leads, Body 9x9mm, Pitch 1.27mm, IPC High Density)
footprint J61_M (Leaded Chip Carrier, 20-Leads, Body 9x9mm, Pitch 1.27mm, IPC Low Density)
3D model PALCE16V8-J61 (20-Pin Plastic Leaded Chip Carrier 1.27 mm Pitch)
pins: 1 CLK/IN0 (in), 2 IN1 (in), 3 IN2 (in), 4 IN3 (in), 5 IN4 (in), 6 IN5 (in), 7 IN6 (in), 8 IN7 (in), 9 IN8 (in), 10 GND (power), 11 ~{OE}/IN9 (in), 12 I/O0 (io), 13 I/O1 (io), 14 I/O2 (io), 15 I/O3 (io), 16 I/O4 (io), 17 I/O5 (io), 18 I/O6 (io), 19 I/O7 (io), 20 VCC (power)

## PALCE16V8-25JI
designator U?
Flash Erasable, Reprogrammable CMOS PAL Device; ComponentAvailability: Not for New Design; Published: 11-Dec-2002; LatestRevisionDate: 13-Apr-2006; LatestRevisionNote: IPC-7351 Footprint Added.; DatasheetVersion: 3-Sep-1998; PackageVersion: Aug-2000; PackageReference: J61; Publisher: Altium Limited; PackageDescription: 20-Pin Plastic Leaded Chip Carrier 1.27 mm Pitch; Code_IPC: PLCC-20; ComponentLink1Description: Manufacturer Link; ComponentLink1URL: http://www.cypress.com/; ComponentLink2Description: Datasheet; ComponentLink2URL: http://www.cypress.com/portal/server.pt/gateway/PTARGS_0_2_1524_209_259_43/http%3B/sjapp20.mis.cypress.com%3B7001/publishedcontent/publish/design_resources/datasheets/contents/palce16v8_5.pdf
footprint J61_N (Leaded Chip Carrier, 20-Leads, Body 9x9mm, Pitch 1.27mm, IPC Medium Density)
footprint J61_L (Leaded Chip Carrier, 20-Leads, Body 9x9mm, Pitch 1.27mm, IPC High Density)
footprint J61_M (Leaded Chip Carrier, 20-Leads, Body 9x9mm, Pitch 1.27mm, IPC Low Density)
3D model PALCE16V8-J61 (20-Pin Plastic Leaded Chip Carrier 1.27 mm Pitch)
pins: 1 CLK/IN0 (in), 2 IN1 (in), 3 IN2 (in), 4 IN3 (in), 5 IN4 (in), 6 IN5 (in), 7 IN6 (in), 8 IN7 (in), 9 IN8 (in), 10 GND (power), 11 ~{OE}/IN9 (in), 12 I/O0 (io), 13 I/O1 (io), 14 I/O2 (io), 15 I/O3 (io), 16 I/O4 (io), 17 I/O5 (io), 18 I/O6 (io), 19 I/O7 (io), 20 VCC (power)

## PALCE16V8-25LMB
designator U?
Flash Erasable, Reprogrammable CMOS PAL Device; ComponentAvailability: Not for New Design; Published: 11-Dec-2002; DatasheetVersion: 3-Sep-1998; PackageVersion: Jul-2001; PackageReference: L61; Publisher: Altium Limited; PackageDescription: Leadless Chip Carrier; 20 Terminals; Body 8.9 x 8.9 mm; ComponentLink1Description: Manufacturer Link; ComponentLink1URL: http://www.cypress.com/; ComponentLink2Description: Datasheet; ComponentLink2URL: http://www.cypress.com/portal/server.pt/gateway/PTARGS_0_2_1524_209_259_43/http%3B/sjapp20.mis.cypress.com%3B7001/publishedcontent/publish/design_resources/datasheets/contents/palce16v8_5.pdf
footprint L61 (Leadless Chip Carrier; 20 Terminals; Body 8.9 x 8.9 mm)
pins: 1 CLK/IN0 (in), 2 IN1 (in), 3 IN2 (in), 4 IN3 (in), 5 IN4 (in), 6 IN5 (in), 7 IN6 (in), 8 IN7 (in), 9 IN8 (in), 10 GND (power), 11 ~{OE}/IN9 (in), 12 I/O0 (io), 13 I/O1 (io), 14 I/O2 (io), 15 I/O3 (io), 16 I/O4 (io), 17 I/O5 (io), 18 I/O6 (io), 19 I/O7 (io), 20 VCC (power)

## PALCE16V8-25PC
designator U?
Flash Erasable, Reprogrammable CMOS PAL Device; ComponentAvailability: Not for New Design; Published: 11-Dec-2002; LatestRevisionDate: 04-Mar-2005; LatestRevisionNote: Stylized 3D Model Added.; DatasheetVersion: 3-Sep-1998; PackageVersion: Oct-2004; PackageReference: P5; Publisher: Altium Limited; PackageDescription: DIP, Molded; 20 Leads; Row Spacing 7.62 mm; Pitch 2.54 mm; Code_JEDEC: MS-001-AD; ComponentLink1Description: Manufacturer Link; ComponentLink1URL: http://www.cypress.com/; ComponentLink2Description: Datasheet; ComponentLink2URL: http://www.cypress.com/portal/server.pt/gateway/PTARGS_0_2_1524_209_259_43/http%3B/sjapp20.mis.cypress.com%3B7001/publishedcontent/publish/design_resources/datasheets/contents/palce16v8_5.pdf
footprint P5 (DIP, Molded; 20 Leads; Row Spacing 7.62 mm; Pitch 2.54 mm)
3D model P5 (DIP, Molded; 20 Leads; Row Spacing 7.62 mm; Pitch 2.54 mm)
pins: 1 CLK/IN0 (in), 2 IN1 (in), 3 IN2 (in), 4 IN3 (in), 5 IN4 (in), 6 IN5 (in), 7 IN6 (in), 8 IN7 (in), 9 IN8 (in), 10 GND (power), 11 ~{OE}/IN9 (in), 12 I/O0 (io), 13 I/O1 (io), 14 I/O2 (io), 15 I/O3 (io), 16 I/O4 (io), 17 I/O5 (io), 18 I/O6 (io), 19 I/O7 (io), 20 VCC (power)

## PALCE16V8L-10JC
designator U?
Flash Erasable, Reprogrammable CMOS PAL Device; ComponentAvailability: Not for New Design; Published: 11-Dec-2002; LatestRevisionDate: 13-Apr-2006; LatestRevisionNote: IPC-7351 Footprint Added.; DatasheetVersion: 3-Sep-1998; PackageVersion: Aug-2000; PackageReference: J61; Publisher: Altium Limited; PackageDescription: 20-Pin Plastic Leaded Chip Carrier 1.27 mm Pitch; Code_IPC: PLCC-20; ComponentLink1Description: Manufacturer Link; ComponentLink1URL: http://www.cypress.com/; ComponentLink2Description: Datasheet; ComponentLink2URL: http://www.cypress.com/portal/server.pt/gateway/PTARGS_0_2_1524_209_259_43/http%3B/sjapp20.mis.cypress.com%3B7001/publishedcontent/publish/design_resources/datasheets/contents/palce16v8_5.pdf
footprint J61_N (Leaded Chip Carrier, 20-Leads, Body 9x9mm, Pitch 1.27mm, IPC Medium Density)
footprint J61_L (Leaded Chip Carrier, 20-Leads, Body 9x9mm, Pitch 1.27mm, IPC High Density)
footprint J61_M (Leaded Chip Carrier, 20-Leads, Body 9x9mm, Pitch 1.27mm, IPC Low Density)
3D model PALCE16V8L-J61 (20-Pin Plastic Leaded Chip Carrier 1.27 mm Pitch)
pins: 1 CLK/IN0 (in), 2 IN1 (in), 3 IN2 (in), 4 IN3 (in), 5 IN4 (in), 6 IN5 (in), 7 IN6 (in), 8 IN7 (in), 9 IN8 (in), 10 GND (power), 11 ~{OE}/IN9 (in), 12 I/O0 (io), 13 I/O1 (io), 14 I/O2 (io), 15 I/O3 (io), 16 I/O4 (io), 17 I/O5 (io), 18 I/O6 (io), 19 I/O7 (io), 20 VCC (power)

## PALCE16V8L-10JI
designator U?
Flash Erasable, Reprogrammable CMOS PAL Device; ComponentAvailability: Not for New Design; Published: 11-Dec-2002; LatestRevisionDate: 13-Apr-2006; LatestRevisionNote: IPC-7351 Footprint Added.; DatasheetVersion: 3-Sep-1998; PackageVersion: Aug-2000; PackageReference: J61; Publisher: Altium Limited; PackageDescription: 20-Pin Plastic Leaded Chip Carrier 1.27 mm Pitch; Code_IPC: PLCC-20; ComponentLink1Description: Manufacturer Link; ComponentLink1URL: http://www.cypress.com/; ComponentLink2Description: Datasheet; ComponentLink2URL: http://www.cypress.com/portal/server.pt/gateway/PTARGS_0_2_1524_209_259_43/http%3B/sjapp20.mis.cypress.com%3B7001/publishedcontent/publish/design_resources/datasheets/contents/palce16v8_5.pdf
footprint J61_N (Leaded Chip Carrier, 20-Leads, Body 9x9mm, Pitch 1.27mm, IPC Medium Density)
footprint J61_L (Leaded Chip Carrier, 20-Leads, Body 9x9mm, Pitch 1.27mm, IPC High Density)
footprint J61_M (Leaded Chip Carrier, 20-Leads, Body 9x9mm, Pitch 1.27mm, IPC Low Density)
3D model PALCE16V8L-J61 (20-Pin Plastic Leaded Chip Carrier 1.27 mm Pitch)
pins: 1 CLK/IN0 (in), 2 IN1 (in), 3 IN2 (in), 4 IN3 (in), 5 IN4 (in), 6 IN5 (in), 7 IN6 (in), 8 IN7 (in), 9 IN8 (in), 10 GND (power), 11 ~{OE}/IN9 (in), 12 I/O0 (io), 13 I/O1 (io), 14 I/O2 (io), 15 I/O3 (io), 16 I/O4 (io), 17 I/O5 (io), 18 I/O6 (io), 19 I/O7 (io), 20 VCC (power)

## PALCE16V8L-10PC
designator U?
Flash Erasable, Reprogrammable CMOS PAL Device; ComponentAvailability: Not for New Design; Published: 11-Dec-2002; LatestRevisionDate: 04-Mar-2005; LatestRevisionNote: Stylized 3D Model Added.; DatasheetVersion: 3-Sep-1998; PackageVersion: Oct-2004; PackageReference: P5; Publisher: Altium Limited; PackageDescription: DIP, Molded; 20 Leads; Row Spacing 7.62 mm; Pitch 2.54 mm; Code_JEDEC: MS-001-AD; ComponentLink1Description: Manufacturer Link; ComponentLink1URL: http://www.cypress.com/; ComponentLink2Description: Datasheet; ComponentLink2URL: http://www.cypress.com/portal/server.pt/gateway/PTARGS_0_2_1524_209_259_43/http%3B/sjapp20.mis.cypress.com%3B7001/publishedcontent/publish/design_resources/datasheets/contents/palce16v8_5.pdf
footprint P5 (DIP, Molded; 20 Leads; Row Spacing 7.62 mm; Pitch 2.54 mm)
3D model P5 (DIP, Molded; 20 Leads; Row Spacing 7.62 mm; Pitch 2.54 mm)
pins: 1 CLK/IN0 (in), 2 IN1 (in), 3 IN2 (in), 4 IN3 (in), 5 IN4 (in), 6 IN5 (in), 7 IN6 (in), 8 IN7 (in), 9 IN8 (in), 10 GND (power), 11 ~{OE}/IN9 (in), 12 I/O0 (io), 13 I/O1 (io), 14 I/O2 (io), 15 I/O3 (io), 16 I/O4 (io), 17 I/O5 (io), 18 I/O6 (io), 19 I/O7 (io), 20 VCC (power)

## PALCE16V8L-10PI
designator U?
Flash Erasable, Reprogrammable CMOS PAL Device; ComponentAvailability: Not for New Design; Published: 11-Dec-2002; LatestRevisionDate: 04-Mar-2005; LatestRevisionNote: Stylized 3D Model Added.; DatasheetVersion: 3-Sep-1998; PackageVersion: Oct-2004; PackageReference: P5; Publisher: Altium Limited; PackageDescription: DIP, Molded; 20 Leads; Row Spacing 7.62 mm; Pitch 2.54 mm; Code_JEDEC: MS-001-AD; ComponentLink1Description: Manufacturer Link; ComponentLink1URL: http://www.cypress.com/; ComponentLink2Description: Datasheet; ComponentLink2URL: http://www.cypress.com/portal/server.pt/gateway/PTARGS_0_2_1524_209_259_43/http%3B/sjapp20.mis.cypress.com%3B7001/publishedcontent/publish/design_resources/datasheets/contents/palce16v8_5.pdf
footprint P5 (DIP, Molded; 20 Leads; Row Spacing 7.62 mm; Pitch 2.54 mm)
3D model P5 (DIP, Molded; 20 Leads; Row Spacing 7.62 mm; Pitch 2.54 mm)
pins: 1 CLK/IN0 (in), 2 IN1 (in), 3 IN2 (in), 4 IN3 (in), 5 IN4 (in), 6 IN5 (in), 7 IN6 (in), 8 IN7 (in), 9 IN8 (in), 10 GND (power), 11 ~{OE}/IN9 (in), 12 I/O0 (io), 13 I/O1 (io), 14 I/O2 (io), 15 I/O3 (io), 16 I/O4 (io), 17 I/O5 (io), 18 I/O6 (io), 19 I/O7 (io), 20 VCC (power)

## PALCE16V8L-15DMB
designator U?
Flash Erasable, Reprogrammable CMOS PAL Device; ComponentAvailability: Not for New Design; Published: 11-Dec-2002; LatestRevisionDate: 04-Mar-2005; LatestRevisionNote: Stylized 3D Model Added.; DatasheetVersion: 3-Sep-1998; PackageVersion: Jul-2001; PackageReference: D6; Publisher: Altium Limited; PackageDescription: CerDIP; 20 Leads; Row Spacing 7.62 mm; Pitch 2.54 mm; ComponentLink1Description: Manufacturer Link; ComponentLink1URL: http://www.cypress.com/; ComponentLink2Description: Datasheet; ComponentLink2URL: http://www.cypress.com/portal/server.pt/gateway/PTARGS_0_2_1524_209_259_43/http%3B/sjapp20.mis.cypress.com%3B7001/publishedcontent/publish/design_resources/datasheets/contents/palce16v8_5.pdf
footprint D6 (CerDIP; 20 Leads; Row Spacing 7.62 mm; Pitch 2.54 mm)
3D model D6 (CerDIP; 20 Leads; Row Spacing 7.62 mm; Pitch 2.54 mm)
pins: 1 CLK/IN0 (in), 2 IN1 (in), 3 IN2 (in), 4 IN3 (in), 5 IN4 (in), 6 IN5 (in), 7 IN6 (in), 8 IN7 (in), 9 IN8 (in), 10 GND (power), 11 ~{OE}/IN9 (in), 12 I/O0 (io), 13 I/O1 (io), 14 I/O2 (io), 15 I/O3 (io), 16 I/O4 (io), 17 I/O5 (io), 18 I/O6 (io), 19 I/O7 (io), 20 VCC (power)

## PALCE16V8L-15JC
designator U?
Flash Erasable, Reprogrammable CMOS PAL Device; ComponentAvailability: Not for New Design; Published: 11-Dec-2002; LatestRevisionDate: 13-Apr-2006; LatestRevisionNote: IPC-7351 Footprint Added.; DatasheetVersion: 3-Sep-1998; PackageVersion: Aug-2000; PackageReference: J61; Publisher: Altium Limited; PackageDescription: 20-Pin Plastic Leaded Chip Carrier 1.27 mm Pitch; Code_IPC: PLCC-20; ComponentLink1Description: Manufacturer Link; ComponentLink1URL: http://www.cypress.com/; ComponentLink2Description: Datasheet; ComponentLink2URL: http://www.cypress.com/portal/server.pt/gateway/PTARGS_0_2_1524_209_259_43/http%3B/sjapp20.mis.cypress.com%3B7001/publishedcontent/publish/design_resources/datasheets/contents/palce16v8_5.pdf
footprint J61_N (Leaded Chip Carrier, 20-Leads, Body 9x9mm, Pitch 1.27mm, IPC Medium Density)
footprint J61_L (Leaded Chip Carrier, 20-Leads, Body 9x9mm, Pitch 1.27mm, IPC High Density)
footprint J61_M (Leaded Chip Carrier, 20-Leads, Body 9x9mm, Pitch 1.27mm, IPC Low Density)
3D model PALCE16V8L-J61 (20-Pin Plastic Leaded Chip Carrier 1.27 mm Pitch)
pins: 1 CLK/IN0 (in), 2 IN1 (in), 3 IN2 (in), 4 IN3 (in), 5 IN4 (in), 6 IN5 (in), 7 IN6 (in), 8 IN7 (in), 9 IN8 (in), 10 GND (power), 11 ~{OE}/IN9 (in), 12 I/O0 (io), 13 I/O1 (io), 14 I/O2 (io), 15 I/O3 (io), 16 I/O4 (io), 17 I/O5 (io), 18 I/O6 (io), 19 I/O7 (io), 20 VCC (power)

## PALCE16V8L-15LMB
designator U?
Flash Erasable, Reprogrammable CMOS PAL Device; ComponentAvailability: Not for New Design; Published: 11-Dec-2002; DatasheetVersion: 3-Sep-1998; PackageVersion: Jul-2001; PackageReference: L61; Publisher: Altium Limited; PackageDescription: Leadless Chip Carrier; 20 Terminals; Body 8.9 x 8.9 mm; ComponentLink1Description: Manufacturer Link; ComponentLink1URL: http://www.cypress.com/; ComponentLink2Description: Datasheet; ComponentLink2URL: http://www.cypress.com/portal/server.pt/gateway/PTARGS_0_2_1524_209_259_43/http%3B/sjapp20.mis.cypress.com%3B7001/publishedcontent/publish/design_resources/datasheets/contents/palce16v8_5.pdf
footprint L61 (Leadless Chip Carrier; 20 Terminals; Body 8.9 x 8.9 mm)
pins: 1 CLK/IN0 (in), 2 IN1 (in), 3 IN2 (in), 4 IN3 (in), 5 IN4 (in), 6 IN5 (in), 7 IN6 (in), 8 IN7 (in), 9 IN8 (in), 10 GND (power), 11 ~{OE}/IN9 (in), 12 I/O0 (io), 13 I/O1 (io), 14 I/O2 (io), 15 I/O3 (io), 16 I/O4 (io), 17 I/O5 (io), 18 I/O6 (io), 19 I/O7 (io), 20 VCC (power)

## PALCE16V8L-15PC
designator U?
Flash Erasable, Reprogrammable CMOS PAL Device; ComponentAvailability: Not for New Design; Published: 11-Dec-2002; LatestRevisionDate: 04-Mar-2005; LatestRevisionNote: Stylized 3D Model Added.; DatasheetVersion: 3-Sep-1998; PackageVersion: Oct-2004; PackageReference: P5; Publisher: Altium Limited; PackageDescription: DIP, Molded; 20 Leads; Row Spacing 7.62 mm; Pitch 2.54 mm; Code_JEDEC: MS-001-AD; ComponentLink1Description: Manufacturer Link; ComponentLink1URL: http://www.cypress.com/; ComponentLink2Description: Datasheet; ComponentLink2URL: http://www.cypress.com/portal/server.pt/gateway/PTARGS_0_2_1524_209_259_43/http%3B/sjapp20.mis.cypress.com%3B7001/publishedcontent/publish/design_resources/datasheets/contents/palce16v8_5.pdf
footprint P5 (DIP, Molded; 20 Leads; Row Spacing 7.62 mm; Pitch 2.54 mm)
3D model P5 (DIP, Molded; 20 Leads; Row Spacing 7.62 mm; Pitch 2.54 mm)
pins: 1 CLK/IN0 (in), 2 IN1 (in), 3 IN2 (in), 4 IN3 (in), 5 IN4 (in), 6 IN5 (in), 7 IN6 (in), 8 IN7 (in), 9 IN8 (in), 10 GND (power), 11 ~{OE}/IN9 (in), 12 I/O0 (io), 13 I/O1 (io), 14 I/O2 (io), 15 I/O3 (io), 16 I/O4 (io), 17 I/O5 (io), 18 I/O6 (io), 19 I/O7 (io), 20 VCC (power)